# EAGLE library part ADGYRO (library ADGyro)
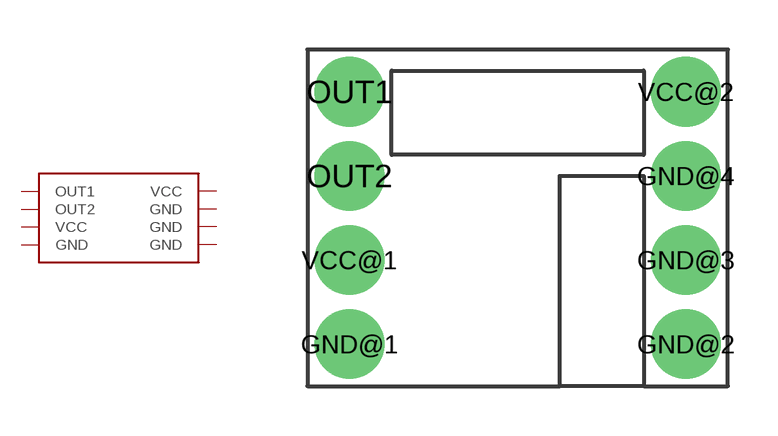
[diagram p0: symbol with the pads of ADGYRO; footprint ADGYRO]

Designator prefix -

## ADGYRO  [ADGYRO]
GND@1  GND
GND@2  GND
GND@3  GND
GND@4  GND
OUT1  OUT1
OUT2  OUT2
VCC@1  VCC
VCC@2  VCC

## Footprint ADGYRO (pad centres in mm)
drill 1.4: GND@1 -5.08,-3.81; GND@2 5.08,-3.81; GND@3 5.08,-1.27; GND@4 5.08,1.27; OUT1 -5.08,3.81; OUT2 -5.08,1.27; VCC@1 -5.08,-1.27; VCC@2 5.08,3.81